# Altium footprint library 0836149012.PcbLib: 1 footprints
Each footprint in its own frame and in the unit in brackets; x right, y up, seen from the top. Pads: shape width x height; smd on the part's side, far side on the other; paste and mask are expansions set on the pad; w line width, h text height; cw(c..) or ccw(c..) is an arc to the next point about the centre after c.
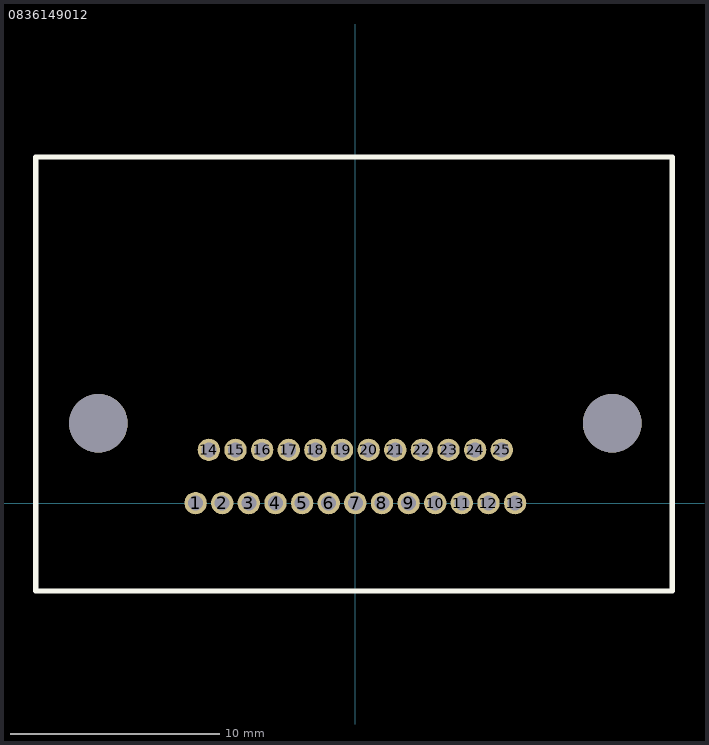
[diagram p0: the footprint, top view; thin cyan lines are the x and y axes]

## 0836149012 [mil] "Mini-DSUB 25-pos Connector"
height 393.7
pads (27):
  round 42 hole 28: 1(-300,0) 2(-250,0) 3(-200,0) 4(-150,0) 5(-100,0) 6(-50,0) 7(0,0) 8(50,0) 9(100,0) 10(150,0) 11(200,0) 12(250,0) 13(300,0) 14(-275,100) 15(-225,100) 16(-175,100) 17(-125,100) 18(-75,100) 19(-25,100) 20(25,100) 21(75,100) 22(125,100) 23(175,100) 24(225,100) 25(275,100)
  round 110 hole 110 unplated: ""(-482.5,150) ""(482.5,150)
Top Overlay:
  lines w10: -600,-165 595,-165 595,650 -600,650 -600,-165
3D body "836149012.stp": height 317.54, standoff -99.46, extent -594.01,-37.67 588.33,623.33
3D body: height 10, standoff 0, extent -9.84,246.06 -9.84,246.06